# Altium schematic symbol library LM78L05ACZ_NOPB.SchLib: 1 symbol
Pins are listed as number, name and electrical type; pins without a type are passive.

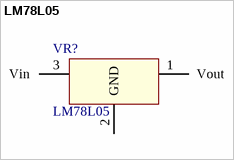
[diagram p0: symbol LM78L05]

## LM78L05
designator VR?
Voltage regulator,LM78L05ACZ 5V LM78L05ACZ/NOPB, Voltage Regulator, 0.1A 5 V,; Manufacturer_Name: Texas Instruments; Manufacturer_Part_Number: LM78L05ACZ/NOPB; RS Part Number: 5359975P; RS Price/Stock: http://uk.rs-online.com/web/p/products/5359975P; Arrow Part Number: LM78L05ACZ/NOPB; Arrow Price/Stock: https://www.arrow.com/en/products/lm78l05acznopb/texas-instruments; Datasheet Link: http://www.ti.com/lit/ds/symlink/lm78l.pdf
footprint LP0003A
pins: 1 Vout, 2 GND, 3 Vin